# EAGLE library part SPIFLASH_SOIC8 (library microbuilder)
M25P16 - 16Mbit (2Mbit x 8) Serial Flash (75MHz SPI Bus), Supply: 2.7-3.6V Digikey: SOIC8 - M25P16-VMN6P-ND W25Q16BVSSIG - 16Mbit (2Mbit x 8) Serial Flash (104MHz SPI Bus), Supply: 2.7-3.6V Digikey: SOIC8 - W25Q16BVSSIG-ND
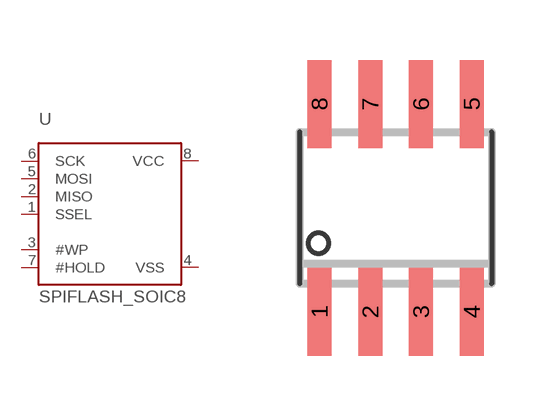
[diagram p113: symbol with the pads of SOIC8; footprint SOIC8]

Designator prefix U

## SPIFLASH_SOIC8  [SOIC8]
1  SSEL
2  MISO
3  #WP
4  VSS
5  MOSI
6  SCK
7  #HOLD
8  VCC

## Footprint SOIC8 (pad centres in mm)
Small Outline IC
smd 0.6 x 2.2: 1 -1.905,-2.6; 2 -0.635,-2.6; 3 0.635,-2.6; 4 1.905,-2.6; 5 1.905,2.6; 6 0.635,2.6; 7 -0.635,2.6; 8 -1.905,2.6